# EAGLE library part ATSAMD21G18A-AUT (library ATSAMD21G18A-AUT)
Cortex-M0+, 256KB FLASH, 32KB SRAM, USB, DMA, T&R - 48TQFP IND TEMP, GREEN, 1.6-3.6V, 48MHz Check availability <https://pricing.snapeda.com/parts/ATSAMD21G18A-AUT/Microchip/view-part?ref=eda>
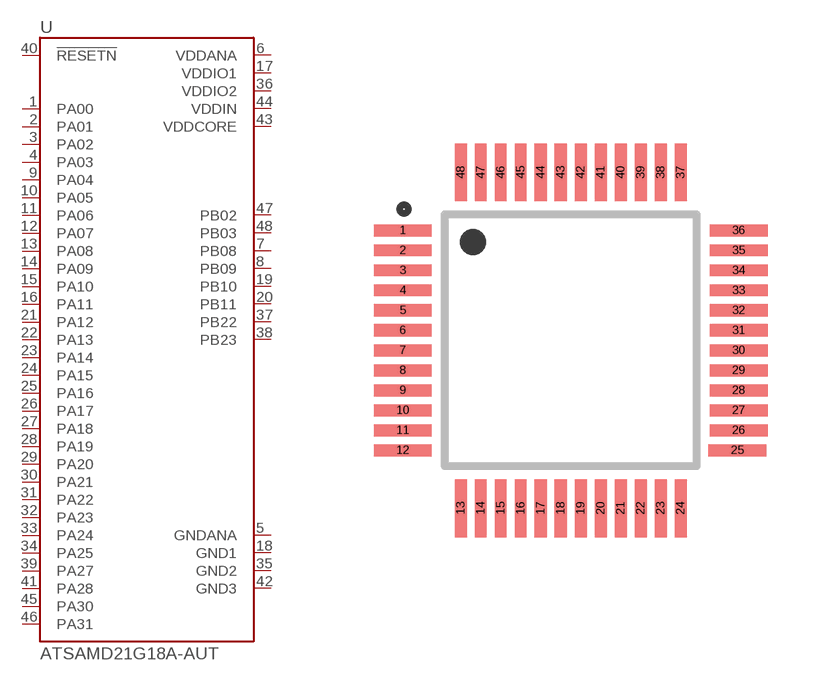
[diagram p0: symbol with the pads of QFP50P900X900X120-48N; footprint QFP50P900X900X120-48N]

Designator prefix U

## ATSAMD21G18A-AUT (Availability: In Stock; Description: ARM® Cortex®-M0+ SAM D21G, Functional Safety (FuSa) Microcontroller IC 32-Bit Single-Core 48MHz 256KB (256K x 8) FLASH 48-TQFP (7x7); MF: Microchip; MP: ATSAMD21G18A-AUT; Package: TQFP-48 Microchip; Price: None; Purchase-URL: https://pricing.snapeda.com/search?q=ATSAMD21G18A-AUT&ref=eda)  [QFP50P900X900X120-48N]
1  PA00
2  PA01
3  PA02
4  PA03
5  GNDANA  pwr
6  VDDANA  pwr
7  PB08
8  PB09
9  PA04
10  PA05
11  PA06
12  PA07
13  PA08
14  PA09
15  PA10
16  PA11
17  VDDIO1  pwr
18  GND1  pwr
19  PB10
20  PB11
21  PA12
22  PA13
23  PA14
24  PA15
25  PA16
26  PA17
27  PA18
28  PA19
29  PA20
30  PA21
31  PA22
32  PA23
33  PA24
34  PA25
35  GND2  pwr
36  VDDIO2  pwr
37  PB22
38  PB23
39  PA27
40  !RESETN  in
41  PA28
42  GND3  pwr
43  VDDCORE  pwr
44  VDDIN  pwr
45  PA30
46  PA31
47  PB02
48  PB03

## Footprint QFP50P900X900X120-48N (pad centres in mm)
smd 1.45 x 0.3: 1 -4.2,2.75; 2 -4.2,2.25; 3 -4.2,1.75; 4 -4.2,1.25; 5 -4.2,0.75; 6 -4.2,0.25; 7 -4.2,-0.25; 8 -4.2,-0.75; 9 -4.2,-1.25; 10 -4.2,-1.75; 11 -4.2,-2.25; 12 -4.2,-2.75; 25 4.17,-2.75; 26 4.2,-2.25; 27 4.2,-1.75; 28 4.2,-1.25; 29 4.2,-0.75; 30 4.2,-0.25; 31 4.2,0.25; 32 4.2,0.75; 33 4.2,1.25; 34 4.2,1.75; 35 4.2,2.25; 36 4.2,2.75
smd 0.3 x 1.45: 13 -2.75,-4.2; 14 -2.25,-4.2; 15 -1.75,-4.2; 16 -1.25,-4.2; 17 -0.75,-4.2; 18 -0.25,-4.2; 19 0.25,-4.2; 20 0.75,-4.2; 21 1.25,-4.2; 22 1.75,-4.2; 23 2.25,-4.2; 24 2.75,-4.2; 37 2.75,4.2; 38 2.25,4.2; 39 1.75,4.2; 40 1.25,4.2; 41 0.75,4.2; 42 0.25,4.2; 43 -0.25,4.2; 44 -0.75,4.2; 45 -1.25,4.2; 46 -1.75,4.2; 47 -2.25,4.2; 48 -2.75,4.2